# EAGLE library part WIZ820IO (library 1)
WIZ820io
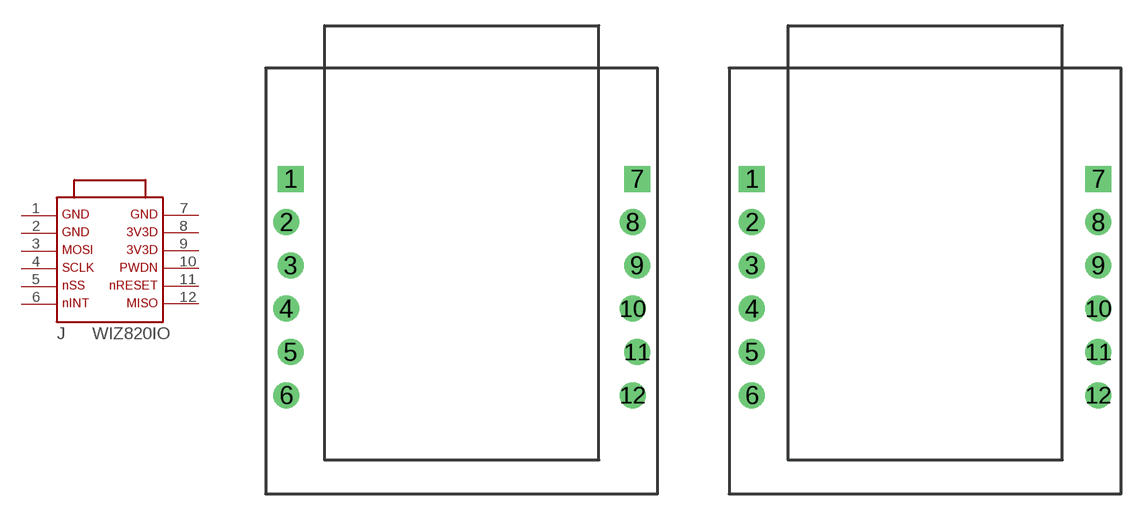
[diagram p36: symbol with the pads of WIZ820IO; footprints WIZ820IO, WIZ820IO_2]

Designator prefix J

## WIZ820IO  [WIZ820IO]
1  P$1
2  P$2
3  P$3
4  P$4
5  P$5
6  P$6
7  P$7
8  P$8
9  P$9
10  P$10
11  P$11
12  P$12

## WIZ820IO2  [WIZ820IO_2]
Pads as for WIZ820IO

## Footprint WIZ820IO (pad centres in mm)
WIZ820io http://www.wiznet.co.kr/Sub_Modules/kr/product/Product_Detail.asp?cate1=5&cate2=42&cate3=0&pid=1160
drill 0.914 pad 1.524 square: 1 -9.963,5.165; 7 10.357,5.165
drill 0.914 pad 1.524: 2 -10.217,2.625; 3 -9.963,0.085; 4 -10.217,-2.455; 5 -9.963,-4.995; 6 -10.217,-7.535; 8 10.103,2.625; 9 10.357,0.085; 10 10.103,-2.455; 11 10.357,-4.995; 12 10.103,-7.535

## Footprint WIZ820IO_2 (pad centres in mm)
drill 0.914 pad 1.524 square: 1 -10.09,5.165; 7 10.23,5.165
drill 0.914 pad 1.524: 2 -10.09,2.625; 3 -10.09,0.085; 4 -10.09,-2.455; 5 -10.09,-4.995; 6 -10.09,-7.535; 8 10.23,2.625; 9 10.23,0.085; 10 10.23,-2.455; 11 10.23,-4.995; 12 10.23,-7.535